# EAGLE library part TPS2022D (library Octanis1_EPS)
TEXAS INSTRUMENTS - TPS2022D - IC, 1.5A PWR DIST SWITCH 8SOIC
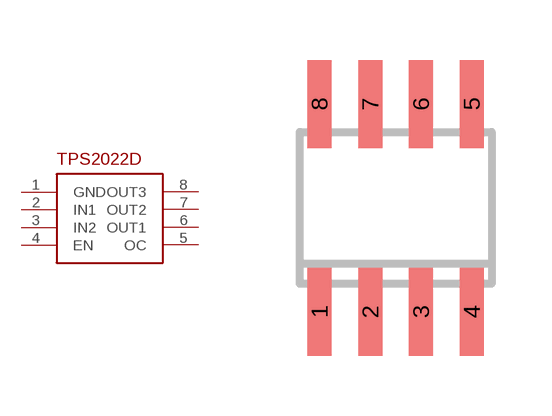
[diagram p4: symbol with the pads of SO8; footprint SO8]

Designator prefix -

## TPS2022D  [SO8]
1  GND
2  IN1
3  IN2
4  EN
5  OC
6  OUT1
7  OUT2
8  OUT3

## Footprint SO8 (pad centres in mm)
SMALL OUTLINE INTEGRATED CIRCUIT SOP-8L Source: http://www.diodes.com/datasheets/ds31262.pdf
smd 0.6 x 2.2: 1 -1.905,-2.6; 2 -0.635,-2.6; 3 0.635,-2.6; 4 1.905,-2.6; 5 1.905,2.6; 6 0.635,2.6; 7 -0.635,2.6; 8 -1.905,2.6